# Altium footprint library 6502_CPU_MainBoard_PCB_V1_2.PcbLib: 25 footprints (part 2 of 2)
Each footprint in its own frame and in the unit in brackets; x right, y up, seen from the top. Pads: shape width x height; smd on the part's side, far side on the other; paste and mask are expansions set on the pad; w line width, h text height; cw(c..) or ccw(c..) is an arc to the next point about the centre after c.
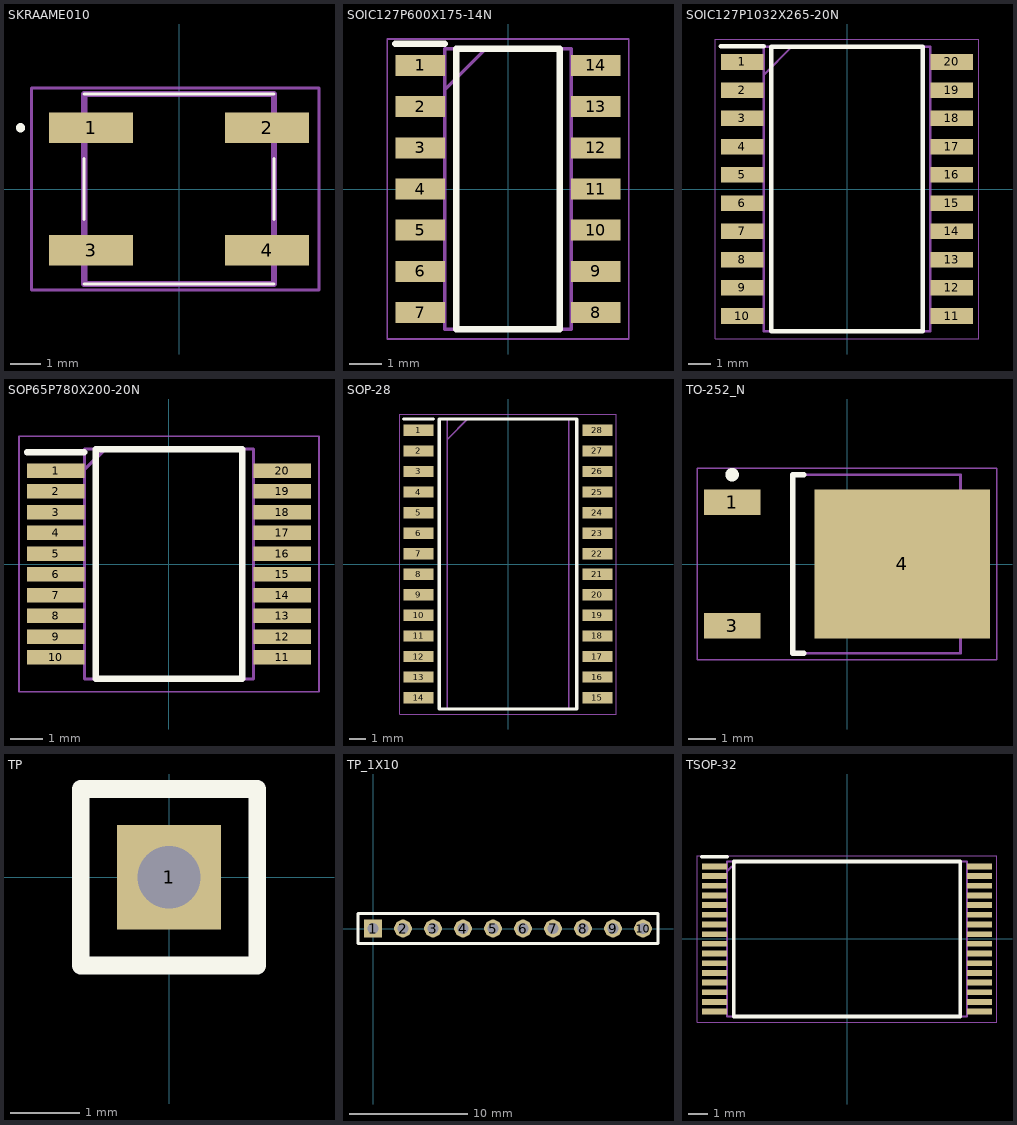
[diagram p1: the footprints below, top view; thin cyan lines are the x and y axes]

## SKRAAME010 [mm]
pads (4):
  rect 2.75x1 smd: 1(-2.875,2) 2(2.875,2) 3(-2.875,-2) 4(2.875,-2)
Top Overlay:
  lines w0.1: -3.1,-3.1 3.1,-3.1 -3.1,-3.1 ; -3.1,-1 -3.1,1 -3.1,-1 ; -3.1,3.1 3.1,3.1 -3.1,3.1 ; 3.1,-1 3.1,1 3.1,-1
  lines w0.2: -5.23,2 ccw(c-5.18,2) -5.13,2 ; -5.23,2 cw(c-5.18,2) -5.13,2 ; -5.23,2 ccw(c-5.18,2) -5.13,2
Mechanical 15:
  lines w0.2: -3.1,-3.1 -3.1,3.1 3.1,3.1 3.1,-3.1 -3.1,-3.1
Mechanical 20:
  lines w0.1: -4.826,-3.302 4.572,-3.302 4.572,3.302 -4.826,3.302 -4.826,-3.302
3D body "SKRAAME010.stp": height 5.4, standoff 0, extent -4.15,-3.1 4.15,3.1

## SOIC127P600X175-14N [mm]
height 1.524
pads (14):
  rect 1.525x0.65 smd: 1(-2.712,3.81) 2(-2.712,2.54) 3(-2.712,1.27) 4(-2.712,0) 5(-2.712,-1.27) 6(-2.712,-2.54) 7(-2.712,-3.81) 8(2.712,-3.81) 9(2.712,-2.54) 10(2.712,-1.27) 11(2.712,0) 12(2.712,1.27) 13(2.712,2.54) 14(2.712,3.81)
Top Overlay:
  lines w0.2: -3.475,4.485 -1.95,4.485 ; -1.6,-4.325 -1.6,4.325 1.6,4.325 1.6,-4.325 -1.6,-4.325
Mechanical 15:
  lines w0.1: -1.95,3.055 -0.68,4.325 ; -1.95,-4.325 -1.95,4.325 1.95,4.325 1.95,-4.325 -1.95,-4.325
Mechanical 20:
  lines w0.05: -3.725,-4.625 -3.725,4.625 3.725,4.625 3.725,-4.625 -3.725,-4.625
3D body "CD74HCT20MT.stp": height 1.75, standoff 0, extent -3.013,-4.325 3.013,4.325

## SOIC127P1032X265-20N [mm]
height 1.524
pads (20):
  rect 1.925x0.7 smd: 1(-4.712,5.715) 2(-4.712,4.445) 3(-4.712,3.175) 4(-4.712,1.905) 5(-4.712,0.635) 6(-4.712,-0.635) 7(-4.712,-1.905) 8(-4.712,-3.175) 9(-4.712,-4.445) 10(-4.712,-5.715) 11(4.712,-5.715) 12(4.712,-4.445) 13(4.712,-3.175) 14(4.712,-1.905) 15(4.712,-0.635) 16(4.712,0.635) 17(4.712,1.905) 18(4.712,3.175) 19(4.712,4.445) 20(4.712,5.715)
Top Overlay:
  lines w0.2: -5.675,6.415 -3.75,6.415 ; -3.4,-6.4 -3.4,6.4 3.4,6.4 3.4,-6.4 -3.4,-6.4
Mechanical 15:
  lines w0.1: -3.75,5.13 -2.48,6.4 ; -3.75,-6.4 -3.75,6.4 3.75,6.4 3.75,-6.4 -3.75,-6.4
Mechanical 20:
  lines w0.05: -5.925,-6.75 -5.925,6.75 5.925,6.75 5.925,-6.75 -5.925,-6.75
3D body "ATTINY2313A-SU.stp": height 2.65, standoff 0, extent -5.162,-6.4 5.162,6.4

## SOP65P780X200-20N [mm]
height 1.524
pads (20):
  rect 1.8x0.45 smd: 1(-3.55,2.925) 2(-3.55,2.275) 3(-3.55,1.625) 4(-3.55,0.975) 5(-3.55,0.325) 6(-3.55,-0.325) 7(-3.55,-0.975) 8(-3.55,-1.625) 9(-3.55,-2.275) 10(-3.55,-2.925) 11(3.55,-2.925) 12(3.55,-2.275) 13(3.55,-1.625) 14(3.55,-0.975) 15(3.55,-0.325) 16(3.55,0.325) 17(3.55,0.975) 18(3.55,1.625) 19(3.55,2.275) 20(3.55,2.925)
Top Overlay:
  lines w0.2: -4.45,3.5 -2.65,3.5 ; -2.3,-3.6 2.3,-3.6 2.3,3.6 -2.3,3.6 -2.3,-3.6
Mechanical 15:
  lines w0.1: -2.65,2.95 -2,3.6 ; -2.65,-3.6 2.65,-3.6 2.65,3.6 -2.65,3.6 -2.65,-3.6
Mechanical 20:
  lines w0.05: -4.7,-4 4.7,-4 4.7,4 -4.7,4 -4.7,-4
3D body "SN74ABT240ADBR.stp": height 1.9, standoff 0, extent -4.027,-3.6 3.773,3.6

## SOP-28 [mm]
height 1.524
pads (28):
  rect 1.85x0.7 smd: 1(-5.525,8.255) 2(-5.525,6.985) 3(-5.525,5.715) 4(-5.525,4.445) 5(-5.525,3.175) 6(-5.525,1.905) 7(-5.525,0.635) 8(-5.525,-0.635) 9(-5.525,-1.905) 10(-5.525,-3.175) 11(-5.525,-4.445) 12(-5.525,-5.715) 13(-5.525,-6.985) 14(-5.525,-8.255) 15(5.525,-8.255) 16(5.525,-6.985) 17(5.525,-5.715) 18(5.525,-4.445) 19(5.525,-3.175) 20(5.525,-1.905) 21(5.525,-0.635) 22(5.525,0.635) 23(5.525,1.905) 24(5.525,3.175) 25(5.525,4.445) 26(5.525,5.715) 27(5.525,6.985) 28(5.525,8.255)
Top Overlay:
  lines w0.2: -6.45,8.955 -4.6,8.955 ; -4.25,-8.966 -4.25,8.966 4.25,8.966 4.25,-8.966 -4.25,-8.966
Mechanical 15:
  lines w0.1: -3.753,7.696 -2.483,8.966 ; -3.753,-8.966 -3.753,8.966 3.753,8.966 3.753,-8.966 -3.753,-8.966
Mechanical 20:
  lines w0.05: -6.7,-9.267 -6.7,9.267 6.7,9.267 6.7,-9.267 -6.7,-9.267
3D body "CY62256NLL-55SNXI.stp": height 2.79, standoff 0, extent -5.969,-9.093 5.969,8.839

## TO-252_N [mm] "D-PAK, 4-Leads, Body 6.1x6.5mm, Pitch 2.28mm, Lead Span 9.7mm, IPC Medium Density"
height 2.4
pads (3):
  rect 2.1x0.95 smd: 1(-4.25,2.28) 3(-4.25,-2.28)
  rect 6.5x5.5 smd: 4(2.05,0)
Top Overlay:
  circle w0.25: c-4.25,3.305 r0.125
  lines w0.2: -1.6,-3.3 -2,-3.3 -2,3.3 -1.6,3.3
Mechanical 13:
  lines w0.1: -2,-3.3 -2,3.3 4.2,3.3 4.2,-3.3 -2,-3.3
Mechanical 15:
  lines w0.05: -5.55,-3.55 -5.55,3.55 5.55,3.55 5.55,-3.55 -5.55,-3.55
  lines w0.1: -0.5,0 0.5,0 ; 0,-0.5 0,0.5
3D body: height 2.4, standoff 0, extent -2,-3.3 4.2,3.3

## TP [mm] "Test Point"
height 1.524
pads (1):
  rect 1.5x1.5 hole 0.9: 1(0,0)
Top Overlay:
  lines w0.254: 0.762,-1.27 1.27,-1.27 ; 1.27,-1.27 -1.27,-1.27 -1.27,1.27 1.27,1.27 1.27,-1.27

## TP_1X10 [mm] "Test Point Header 1X10"
height 1.524
pads (10):
  rect 1.5x1.5 hole 0.9: 1(0,0)
  round 1.5 hole 0.9: 2(2.54,0) 3(5.08,0) 4(7.62,0) 5(10.16,0) 6(12.7,0) 7(15.24,0) 8(17.78,0) 9(20.32,0) 10(22.86,0)
Top Overlay:
  lines w0.254: 11.43,-1.27 24.13,-1.27 24.13,1.27 -1.27,1.27 -1.27,-1.27 11.684,-1.27

## TSOP-32 [mm]
height 1.524
pads (32):
  rect 1.3x0.3 smd: 1(-6.85,3.75) 2(-6.85,3.25) 3(-6.85,2.75) 4(-6.85,2.25) 5(-6.85,1.75) 6(-6.85,1.25) 7(-6.85,0.75) 8(-6.85,0.25) 9(-6.85,-0.25) 10(-6.85,-0.75) 11(-6.85,-1.25) 12(-6.85,-1.75) 13(-6.85,-2.25) 14(-6.85,-2.75) 15(-6.85,-3.25) 16(-6.85,-3.75) 17(6.85,-3.75) 18(6.85,-3.25) 19(6.85,-2.75) 20(6.85,-2.25) 21(6.85,-1.75) 22(6.85,-1.25) 23(6.85,-0.75) 24(6.85,-0.25) 25(6.85,0.25) 26(6.85,0.75) 27(6.85,1.25) 28(6.85,1.75) 29(6.85,2.25) 30(6.85,2.75) 31(6.85,3.25) 32(6.85,3.75)
Top Overlay:
  lines w0.2: -7.5,4.25 -6.2,4.25 ; -5.85,-4 5.85,-4 5.85,4 -5.85,4 -5.85,-4
Mechanical 15:
  lines w0.1: -6.2,3.5 -5.7,4 ; -6.2,-4 6.2,-4 6.2,4 -6.2,4 -6.2,-4
Mechanical 20:
  lines w0.05: -7.75,-4.3 7.75,-4.3 7.75,4.3 -7.75,4.3 -7.75,-4.3
3D body "SST39SF040-55-4C-WHE-T.stp": height 1.05, standoff 0, extent -7,-4 7,4